# EAGLE library part LM4890MX/NOPB (library LM4890)
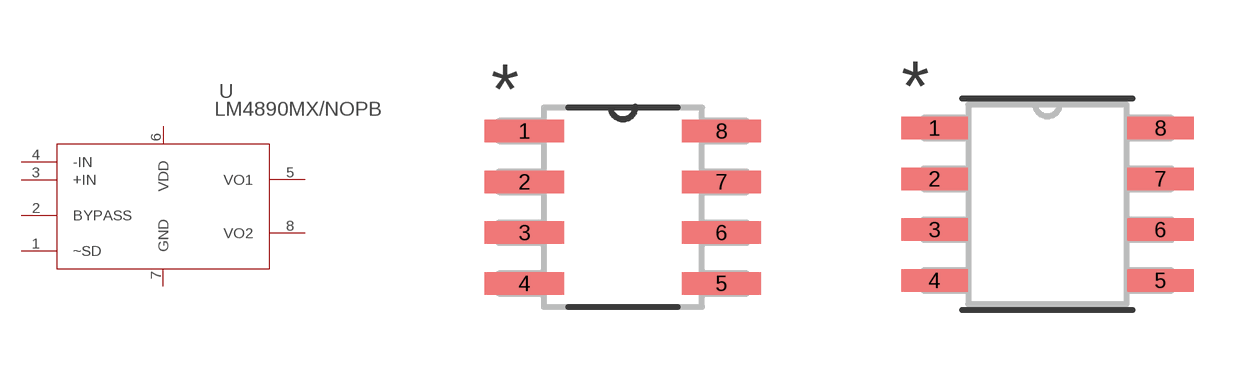
[diagram p0: symbol with the pads of M08A; footprints M08A, M08A-M]

Designator prefix -

## LM4890MX/NOPB (COPYRIGHT: Copyright (C) 2022 Ultra Librarian. All rights reserved.; DIGI-KEY_PART_NUMBER_1: 2156-LM4890MX/NOPB-ND; DIGI-KEY_PART_NUMBER_2: 296-47333-1-ND; DIGI-KEY_PART_NUMBER_3: 296-47333-2-ND; DIGI-KEY_PART_NUMBER_4: 296-47333-6-ND; DIGI-KEY_PART_NUMBER_5: LM4890MX/NOPBTR-ND; MANUFACTURER_PART_NUMBER: LM4890MX/NOPB; MFR_NAME: Texas Instruments)  [M08A]
1  ~SD  in
2  BYPASS  pas
3  +IN  in
4  -IN  in
5  VO1  out
6  VDD  pwr
7  GND  pwr
8  VO2  out

## LM4890MX/NOPBM08A-M (COPYRIGHT: Copyright (C) 2022 Ultra Librarian. All rights reserved.; DIGI-KEY_PART_NUMBER_1: 2156-LM4890MX/NOPB-ND; DIGI-KEY_PART_NUMBER_2: 296-47333-1-ND; DIGI-KEY_PART_NUMBER_3: 296-47333-2-ND; DIGI-KEY_PART_NUMBER_4: 296-47333-6-ND; DIGI-KEY_PART_NUMBER_5: LM4890MX/NOPBTR-ND; MANUFACTURER_PART_NUMBER: LM4890MX/NOPB; MFR_NAME: Texas Instruments)  [M08A-M]
Pads as for M08A

## LM4890MX/NOPBM08A-L (COPYRIGHT: Copyright (C) 2022 Ultra Librarian. All rights reserved.; DIGI-KEY_PART_NUMBER_1: 2156-LM4890MX/NOPB-ND; DIGI-KEY_PART_NUMBER_2: 296-47333-1-ND; DIGI-KEY_PART_NUMBER_3: 296-47333-2-ND; DIGI-KEY_PART_NUMBER_4: 296-47333-6-ND; DIGI-KEY_PART_NUMBER_5: LM4890MX/NOPBTR-ND; MANUFACTURER_PART_NUMBER: LM4890MX/NOPB; MFR_NAME: Texas Instruments)  [M08A-L]
Pads as for M08A

## Footprint M08A (pad centres in mm)
smd 1.981 x 0.559: 1 -2.464,1.905; 2 -2.464,0.635; 3 -2.464,-0.635; 4 -2.464,-1.905; 5 2.464,-1.905; 6 2.464,-0.635; 7 2.464,0.635; 8 2.464,1.905

## Footprint M08A-M (pad centres in mm)
smd 1.664 x 0.559: 1 -2.826,1.905; 2 -2.826,0.635; 3 -2.826,-0.635; 4 -2.826,-1.905; 5 2.826,-1.905; 6 2.826,-0.635; 7 2.826,0.635; 8 2.826,1.905

## Footprint M08A-L (pad centres in mm)
smd 1.257 x 0.508: 1 -2.623,1.905; 2 -2.623,0.635; 3 -2.623,-0.635; 4 -2.623,-1.905; 5 2.623,-1.905; 6 2.623,-0.635; 7 2.623,0.635; 8 2.623,1.905